# EAGLE library part TMMH-110-05-F-D (library X16-ESC-Controller)
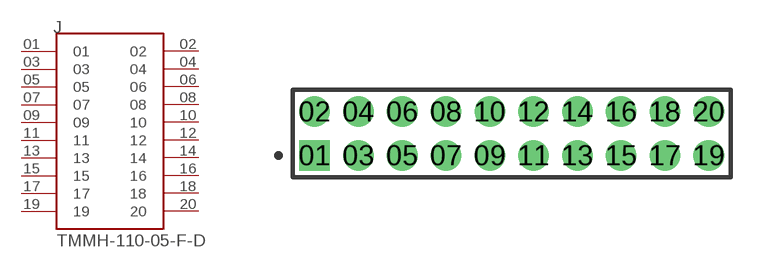
[diagram p3: symbol with the pads of SAMTEC_TMMH-110-05-F-D; footprint SAMTEC_TMMH-110-05-F-D]

Designator prefix J

## TMMH-110-05-F-D (MANUFACTURER: Samtec; PARTREV: R; STANDARD: Manufacturer Recommendations)  [SAMTEC_TMMH-110-05-F-D]
01  01  pas
02  02  pas
03  03  pas
04  04  pas
05  05  pas
06  06  pas
07  07  pas
08  08  pas
09  09  pas
10  10  pas
11  11  pas
12  12  pas
13  13  pas
14  14  pas
15  15  pas
16  16  pas
17  17  pas
18  18  pas
19  19  pas
20  20  pas

## Footprint SAMTEC_TMMH-110-05-F-D (pad centres in mm)
drill 0.889 pad 1.239 square: 01 0,0
drill 0.889 pad 1.239: 02 0,2; 03 2,0; 04 2,2; 05 4,0; 06 4,2; 07 6,0; 08 6,2; 09 8,0; 10 8,2; 11 10,0; 12 10,2; 13 12,0; 14 12,2; 15 14,0; 16 14,2; 17 16,0; 18 16,2; 19 18,0; 20 18,2